# Altium schematic symbol library H-Signaling device.SCHLIB: 8 symbols
Pins are listed as number, name and electrical type; pins without a type are passive.

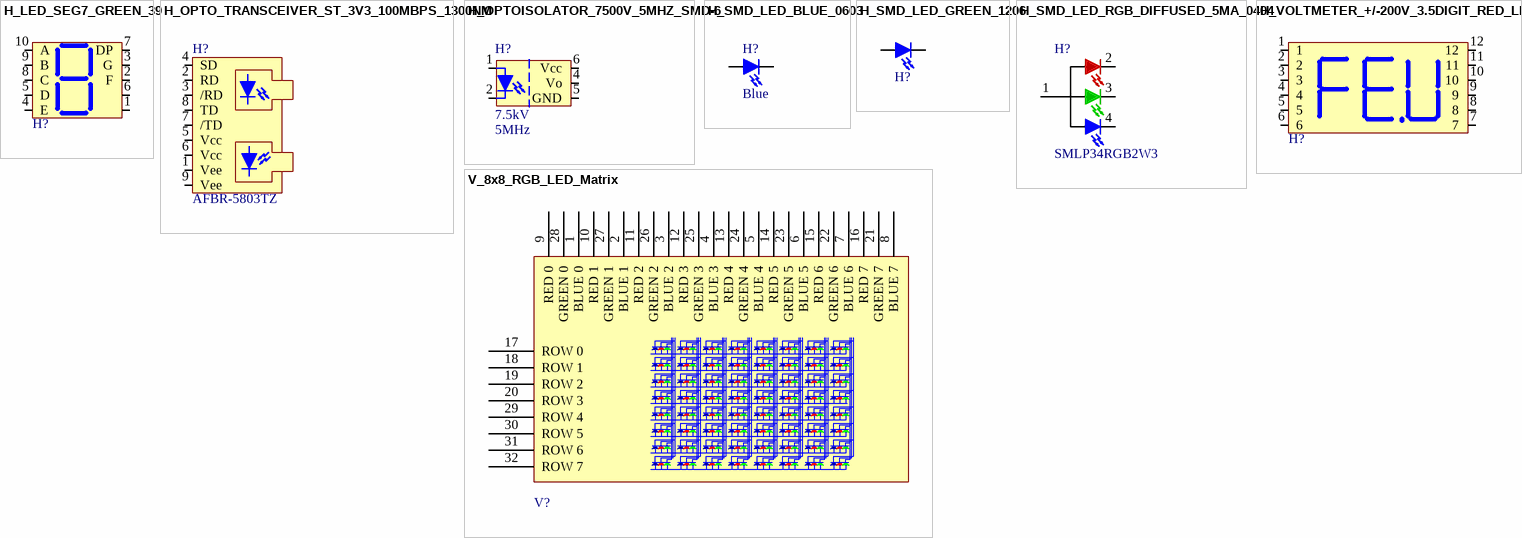
[diagram p0: symbols H_LED_SEG7_GREEN_39 to V_8x8_RGB_LED_Matrix]

## H_LED_SEG7_GREEN_39
designator H?  (value not drawn)
7-Segment Green LED display; Supplier - Digikey: 160-1574-5-ND
footprint THT_39
pins: 1 CATHODE, 2 F, 3 G, 4 E, 5 D, 6 CATHODE, 7 DP, 8 C, 9 B, 10 A

## H_OPTO_TRANSCEIVER_ST_3V3_100MBPS_1300NM
designator H?  Type: AFBR-5803TZ  (hidden comment: H_OPTO_TRANSCEIVER_ST_3V3_100MBPS_1300NM)
Supplier - Digikey: 516-1990-ND
footprint THT_AFBR-5803TZ
pins: 1 Vee, 2 RD, 3 /RD, 4 SD, 5 Vcc, 6 Vcc, 7 /TD, 8 TD, 9 Vee

## H_OPTOISOLATOR_7500V_5MHZ_SMD-6
designator H?  value 7.5kV  Value2: 5MHz  (hidden comment: H_OPTOISOLATOR_7500V_5MHZ_SMD-6)
Supplier - Digikey: H11N1SR2MCT-ND
footprint SMD-6
pins: 1 Anode, 2 Cathode, 4 Vo, 5 GND, 6 Vcc

## H_SMD_LED_BLUE_0603
designator H?  Type: Blue  (hidden comment: H_SMD_LED_BLUE_0603)
Blue LED, 5mA; Supplier - Digikey: VAOL-S6SB4CT-ND
footprint SMD_0603P
pins: 1, 2

## H_SMD_LED_GREEN_1206
designator H?  (value not drawn)
LED GREEN CLEAR 1206 REV MT SMD; Supplier - Digikey: 160-1456-1-ND
footprint SMD_1206_BOTTOM_ENTRY
pins: 1, 2

## H_SMD_LED_RGB_DIFFUSED_5MA_0404
designator H?  Type: SMLP34RGB2W3  (hidden comment: H_SMD_LED_RGB_DIFFUSED_5MA_0404)
Red, Green, Blue (RGB) 624nm Red, 527nm Green, 470nm Blue LED Indication - Discrete 2.1V Red, 3.1V Green, 3V Blue 0404 (1010 Metric); Supplier - Digikey: SMLP34RGB2W3CT-ND
footprint SMD_LED_0404
pins: 1, 2, 3, 4

## H_VOLTMETER_+/-200V_3.5DIGIT_RED_LED
designator H?  (value not drawn)
DPM +/-200V 3.5 DIG RED LED; Supplier - Digikey: 811-2669-ND; Type: DMS-20PC-3-RS-C
footprint THT_DMS-20PC-3-RS-C (Footprint for DPM +/-200V 3.5 DIG RED LED)
pins: 1, 2, 3, 4, 5, 6, 7, 8, 9, 10, 11, 12

## V_8x8_RGB_LED_Matrix
designator V?, comment 8x8 RGB LED Matrix  (value not drawn)
Supplier - Watterott: 2009879
footprint THT_CUSTOM_8x8_RGB_LED_MATRIX
pins: 1 BLUE 0, 2 BLUE 1, 3 BLUE 2, 4 BLUE 3, 5 BLUE 4, 6 BLUE 5, 7 BLUE 6, 8 BLUE 7, 9 RED 0, 10 RED 1, 11 RED 2, 12 RED 3, 13 RED 4, 14 RED 5, 15 RED 6, 16 RED 7, 17 ROW 0, 18 ROW 1, 19 ROW 2, 20 ROW 3, 21 GREEN 7, 22 GREEN 6, 23 GREEN 5, 24 GREEN 4, 25 GREEN 3, 26 GREEN 2, 27 GREEN 1, 28 GREEN 0, 29 ROW 4, 30 ROW 5, 31 ROW 6, 32 ROW 7